# EAGLE library part USB3740 (library microchip2)
High Speed Switch for Mobile and Portable Applications
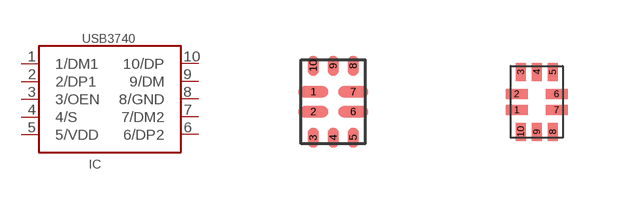
[diagram p247: symbol with the pads of QFN10_2,1X1,6; footprints QFN10_2,1X1,6, QFN10_1,3X1,8]

Designator prefix IC

## USB3740USB3740B-AI9TR  [QFN10_2,1X1,6]
1  1/DM1  in
2  2/DP1  in
3  3/OEN  in
4  4/S  in
5  5/VDD  pwr
6  6/DP2  in
7  7/DM2  in
8  8/GND  pwr
9  9/DM  out
10  10/DP  out

## USB3740USB3740B-AI2-TR  [QFN10_1,3X1,8]
Pads as for QFN10_2,1X1,6

## Footprint QFN10_2,1X1,6 (pad centres in mm)
10 pin, 1.6mm x 2.1mm QFN Package Outline
smd 0.75 x 0.28: 1 -0.5,0.25; 2 -0.5,-0.25; 6 0.5,-0.25; 7 0.5,0.25
smd 0.28 x 0.5: 3 -0.5,-0.9; 4 0,-0.9; 5 0.5,-0.9; 8 0.5,0.9; 9 0,0.9; 10 -0.5,0.9

## Footprint QFN10_1,3X1,8 (pad centres in mm)
10 pin, 1.3mm x 1.8mm QFN Package Outline
smd 0.55 x 0.25: 1 -0.5,-0.2; 2 -0.5,0.2; 6 0.5,0.2; 7 0.5,-0.2
smd 0.25 x 0.45: 3 -0.4,0.75; 4 0,0.75; 5 0.4,0.75; 8 0.4,-0.75; 9 0,-0.75; 10 -0.4,-0.75